# EAGLE library part TDA7493 (library BaseApp)
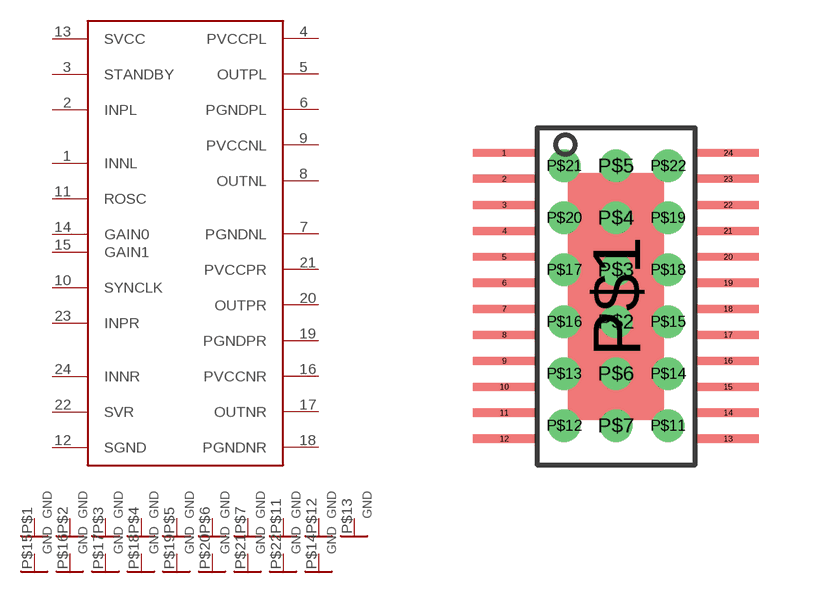
[diagram p91: symbol with the pads of HTSSOP24; footprint HTSSOP24]

Designator prefix -; gates G$1=TDA7493 G$2=GND G$3=GND G$4=GND G$5=GND G$6=GND G$7=GND G$8=GND G$9=GND G$10=GND G$11=GND G$12=GND G$13=GND G$14=GND G$15=GND G$16=GND G$17=GND G$18=GND G$19=GND G$20=GND

## TDA7493  [HTSSOP24]
1  G$1:INNL
2  G$1:INPL
3  G$1:STANDBY
4  G$1:PVCCPL
5  G$1:OUTPL
6  G$1:PGNDPL
7  G$1:PGNDNL
8  G$1:OUTNL
9  G$1:PVCCNL
10  G$1:SYNCLK
11  G$1:ROSC
12  G$1:SGND
13  G$1:SVCC
14  G$1:GAIN0
15  G$1:GAIN1
16  G$1:PVCCNR
17  G$1:OUTNR
18  G$1:PGNDNR
19  G$1:PGNDPR
20  G$1:OUTPR
21  G$1:PVCCPR
22  G$1:SVR
23  G$1:INPR
24  G$1:INNR
P$1  G$2:GND  pwr
P$2  G$3:GND  pwr
P$3  G$4:GND  pwr
P$4  G$5:GND  pwr
P$5  G$6:GND  pwr
P$6  G$7:GND  pwr
P$7  G$8:GND  pwr
P$11  G$9:GND  pwr
P$12  G$10:GND  pwr
P$13  G$11:GND  pwr
P$14  G$12:GND  pwr
P$15  G$13:GND  pwr
P$16  G$14:GND  pwr
P$17  G$15:GND  pwr
P$18  G$16:GND  pwr
P$19  G$17:GND  pwr
P$20  G$18:GND  pwr
P$21  G$19:GND  pwr
P$22  G$20:GND  pwr

## Footprint HTSSOP24 (pad centres in mm)
smd 1.55 x 0.2: 1 -2.8,4.225; 2 -2.8,3.575; 3 -2.8,2.925; 4 -2.8,2.275; 5 -2.8,1.625; 6 -2.8,0.975; 7 -2.8,0.325; 8 -2.8,-0.325; 9 -2.8,-0.975; 10 -2.8,-1.625; 11 -2.8,-2.275; 12 -2.8,-2.925; 13 2.8,-2.925; 14 2.8,-2.275; 15 2.8,-1.625; 16 2.8,-0.975; 17 2.8,-0.325; 18 2.8,0.325; 19 2.8,0.975; 20 2.8,1.625; 21 2.8,2.275; 22 2.8,2.925; 23 2.8,3.575; 24 2.8,4.225
smd 2.4 x 6.17: P$1 0,0.635
drill 0.305: P$2 0,0; P$3 0,1.3; P$4 0,2.6; P$5 0,3.9; P$6 0,-1.3; P$7 0,-2.6; P$11 1.3,-2.6; P$12 -1.3,-2.6; P$13 -1.3,-1.3; P$14 1.3,-1.3; P$15 1.3,0; P$16 -1.3,0; P$17 -1.3,1.3; P$18 1.3,1.3; P$19 1.3,2.6; P$20 -1.3,2.6; P$21 -1.3,3.9; P$22 1.3,3.9